# Altium footprint library STC Micro 15 Series.PcbLib: 25 footprints (part 1 of 2)
Each footprint in its own frame and in the unit in brackets; x right, y up, seen from the top. Pads: shape width x height; smd on the part's side, far side on the other; paste and mask are expansions set on the pad; w line width, h text height; cw(c..) or ccw(c..) is an arc to the next point about the centre after c.
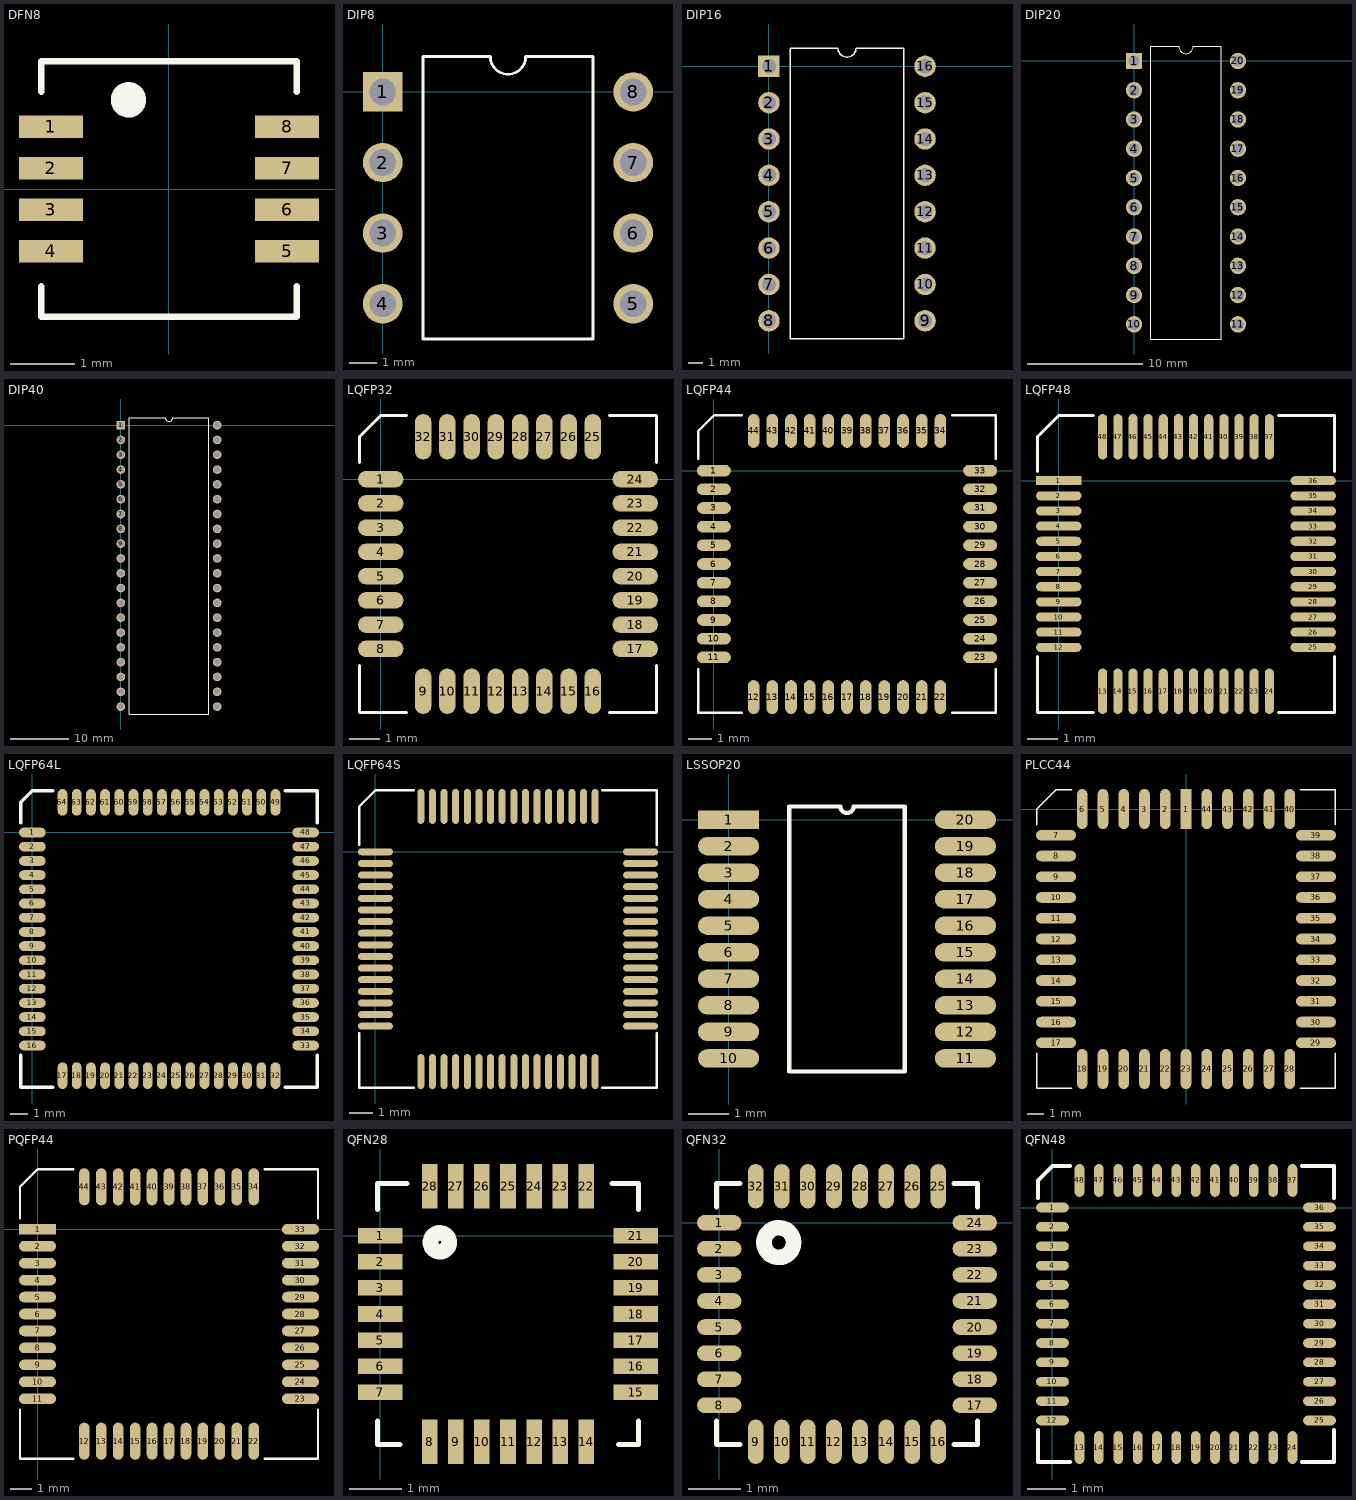
[diagram p0: the footprints below, top view; thin cyan lines are the x and y axes]

## DFN8 [mm]
pads (8):
  rect 1x0.35 all layers, no hole: 1(-1.85,0.975) 2(-1.85,0.325) 3(-1.85,-0.325) 4(-1.85,-0.975) 5(1.85,-0.975) 6(1.85,-0.325) 7(1.85,0.325) 8(1.85,0.975)
Top Overlay:
  circle w0.3: c-0.635,1.397 r0.127
  lines w0.1: -2,-1.524 -2,-2 2,-2 2,-1.524 ; -2,1.524 -2,2 2,2 2,1.524

## DIP8 [mil]
pads (8):
  rect 56x56 hole 38: 1(0,0)
  round 56 hole 38: 2(0,-100) 3(0,-200) 4(0,-300) 5(355,-300) 6(355,-200) 7(355,-100) 8(355,0)
Top Overlay:
  lines w4: 57,-350 57,50 152.5,50 ccw(c177.5,50) 202.5,50 298,50 298,-350 57,-350

## DIP16 [mm]
pads (16):
  rect 1.5x1.5 hole 1: 1(0,0)
  round 1.5 hole 1: 2(0,-2.54) 3(0,-5.08) 4(0,-7.62) 5(0,-10.16) 6(0,-12.7) 7(0,-15.24) 8(0,-17.78) 9(10.9,-17.78) 10(10.9,-15.24) 11(10.9,-12.7) 12(10.9,-10.16) 13(10.9,-7.62) 14(10.9,-5.08) 15(10.9,-2.54) 16(10.9,0)
Top Overlay:
  lines w0.1: 1.485,-19.05 1.485,1.27 4.815,1.27 ccw(c5.45,1.27) 6.085,1.27 9.415,1.27 9.415,-19.05 1.485,-19.05

## DIP20 [mil]
pads (20):
  rect 56x56 hole 38: 1(0,0)
  round 56 hole 38: 2(0,-100) 3(0,-200) 4(0,-300) 5(0,-400) 6(0,-500) 7(0,-600) 8(0,-700) 9(0,-800) 10(0,-900) 11(355,-900) 12(355,-800) 13(355,-700) 14(355,-600) 15(355,-500) 16(355,-400) 17(355,-300) 18(355,-200) 19(355,-100) 20(355,0)
Top Overlay:
  lines w4: 57,-950 298,-950 298,50 202.5,50 cw(c177.5,50) 152.5,50 57,50 57,-950

## DIP40 [mil]
pads (40):
  rect 58x58 hole 40: 1(0,0)
  round 58 hole 40: 2(0,-100) 3(0,-200) 4(0,-300) 5(0,-400) 6(0,-500) 7(0,-600) 8(0,-700) 9(0,-800) 10(0,-900) 11(0,-1000) 12(0,-1100) 13(0,-1200) 14(0,-1300) 15(0,-1400) 16(0,-1500) 17(0,-1600) 18(0,-1700) 19(0,-1800) 20(0,-1900) 21(650,-1900) 22(650,-1800) 23(650,-1700) 24(650,-1600) 25(650,-1500) 26(650,-1400) 27(650,-1300) 28(650,-1200) 29(650,-1100) 30(650,-1000) 31(650,-900) 32(650,-800) 33(650,-700) 34(650,-600) 35(650,-500) 36(650,-400) 37(650,-300) 38(650,-200) 39(650,-100) 40(650,0)
Top Overlay:
  lines w4: 58,-1950 592,-1950 592,50 350,50 cw(c325,50) 300,50 58,50 58,-1950

## LQFP32 [mm]
pads (32):
  oval 1.5x0.55 smd: 1(0,0) 2(0,-0.8) 3(0,-1.6) 4(0,-2.4) 5(0,-3.2) 6(0,-4) 7(0,-4.8) 8(0,-5.6) 17(8.4,-5.6) 18(8.4,-4.8) 19(8.4,-4) 20(8.4,-3.2) 21(8.4,-2.4) 22(8.4,-1.6) 23(8.4,-0.8) 24(8.4,0)
  oval 0.55x1.5 smd: 9(1.4,-7) 10(2.2,-7) 11(3,-7) 12(3.8,-7) 13(4.6,-7) 14(5.4,-7) 15(6.2,-7) 16(7,-7) 25(7,1.4) 26(6.2,1.4) 27(5.4,1.4) 28(4.6,1.4) 29(3.8,1.4) 30(3,1.4) 31(2.2,1.4) 32(1.4,1.4)
Top Overlay:
  lines w0.1: -0.7,-6.15 -0.7,-7.7 0.85,-7.7 ; -0.7,0.55 -0.7,1.4 0,2.1 0.85,2.1 ; 7.55,-7.7 9.1,-7.7 9.1,-6.15 ; 7.55,2.1 9.1,2.1 9.1,0.55

## LQFP44 [mm]
pads (44):
  oval 1.45x0.5 smd: 1(0,0) 2(0,-0.8) 3(0,-1.6) 4(0,-2.4) 5(0,-3.2) 6(0,-4) 7(0,-4.8) 8(0,-5.6) 9(0,-6.4) 10(0,-7.2) 11(0,-8) 23(11.4,-8) 24(11.4,-7.2) 25(11.4,-6.4) 26(11.4,-5.6) 27(11.4,-4.8) 28(11.4,-4) 29(11.4,-3.2) 30(11.4,-2.4) 31(11.4,-1.6) 32(11.4,-0.8) 33(11.4,0)
  oval 0.5x1.45 smd: 12(1.7,-9.7) 13(2.5,-9.7) 14(3.3,-9.7) 15(4.1,-9.7) 16(4.9,-9.7) 17(5.7,-9.7) 18(6.5,-9.7) 19(7.3,-9.7) 20(8.1,-9.7) 21(8.9,-9.7) 22(9.7,-9.7) 34(9.7,1.7) 35(8.9,1.7) 36(8.1,1.7) 37(7.3,1.7) 38(6.5,1.7) 39(5.7,1.7) 40(4.9,1.7) 41(4.1,1.7) 42(3.3,1.7) 43(2.5,1.7) 44(1.7,1.7)
Top Overlay:
  lines w0.1: -0.675,-8.5 -0.675,-10.375 1.2,-10.375 ; -0.675,0.5 -0.675,1.7 0,2.375 1.2,2.375 ; 10.2,-10.375 12.075,-10.375 12.075,-8.5 ; 10.2,2.375 12.075,2.375 12.075,0.5

## LQFP48 [mm]
pads (48):
  rect 1.5x0.3 smd: 1(0,0)
  oval 1.5x0.3 smd: 2(0,-0.5) 3(0,-1) 4(0,-1.5) 5(0,-2) 6(0,-2.5) 7(0,-3) 8(0,-3.5) 9(0,-4) 10(0,-4.5) 11(0,-5) 12(0,-5.5) 25(8.4,-5.5) 26(8.4,-5) 27(8.4,-4.5) 28(8.4,-4) 29(8.4,-3.5) 30(8.4,-3) 31(8.4,-2.5) 32(8.4,-2) 33(8.4,-1.5) 34(8.4,-1) 35(8.4,-0.5) 36(8.4,0)
  oval 0.3x1.5 smd: 13(1.45,-6.95) 14(1.95,-6.95) 15(2.45,-6.95) 16(2.95,-6.95) 17(3.45,-6.95) 18(3.95,-6.95) 19(4.45,-6.95) 20(4.95,-6.95) 21(5.45,-6.95) 22(5.95,-6.95) 23(6.45,-6.95) 24(6.95,-6.95) 37(6.95,1.45) 38(6.45,1.45) 39(5.95,1.45) 40(5.45,1.45) 41(4.95,1.45) 42(4.45,1.45) 43(3.95,1.45) 44(3.45,1.45) 45(2.95,1.45) 46(2.45,1.45) 47(1.95,1.45) 48(1.45,1.45)
Top Overlay:
  lines w0.1: -0.7,-5.8 -0.7,-7.65 1.15,-7.65 ; -0.7,0.3 -0.7,1.45 0,2.15 1.15,2.15 ; 7.25,-7.65 9.1,-7.65 9.1,-5.8 ; 7.25,2.15 9.1,2.15 9.1,0.3

## LQFP64L [mm]
pads (64):
  oval 1.5x0.55 smd: 1(0,0) 2(0,-0.8) 3(0,-1.6) 4(0,-2.4) 5(0,-3.2) 6(0,-4) 7(0,-4.8) 8(0,-5.6) 9(0,-6.4) 10(0,-7.2) 11(0,-8) 12(0,-8.8) 13(0,-9.6) 14(0,-10.4) 15(0,-11.2) 16(0,-12) 33(15.4,-12) 34(15.4,-11.2) 35(15.4,-10.4) 36(15.4,-9.6) 37(15.4,-8.8) 38(15.4,-8) 39(15.4,-7.2) 40(15.4,-6.4) 41(15.4,-5.6) 42(15.4,-4.8) 43(15.4,-4) 44(15.4,-3.2) 45(15.4,-2.4) 46(15.4,-1.6) 47(15.4,-0.8) 48(15.4,0)
  oval 0.55x1.5 smd: 17(1.7,-13.7) 18(2.5,-13.7) 19(3.3,-13.7) 20(4.1,-13.7) 21(4.9,-13.7) 22(5.7,-13.7) 23(6.5,-13.7) 24(7.3,-13.7) 25(8.1,-13.7) 26(8.9,-13.7) 27(9.7,-13.7) 28(10.5,-13.7) 29(11.3,-13.7) 30(12.1,-13.7) 31(12.9,-13.7) 32(13.7,-13.7) 49(13.7,1.7) 50(12.9,1.7) 51(12.1,1.7) 52(11.3,1.7) 53(10.5,1.7) 54(9.7,1.7) 55(8.9,1.7) 56(8.1,1.7) 57(7.3,1.7) 58(6.5,1.7) 59(5.7,1.7) 60(4.9,1.7) 61(4.1,1.7) 62(3.3,1.7) 63(2.5,1.7) 64(1.7,1.7)
Top Overlay:
  lines w0.2: -0.65,-12.55 -0.65,-14.35 1.15,-14.35 ; -0.65,0.55 -0.65,1.7 0,2.35 1.15,2.35 ; 14.25,-14.35 16.05,-14.35 16.05,-12.55 ; 14.25,2.35 16.05,2.35 16.05,0.55

## LQFP64S [mm]
height 1.6
pads (64):
  oval 1.5x0.3 smd: 1(0,0) 2(0,-0.5) 3(0,-1) 4(0,-1.5) 5(0,-2) 6(0,-2.5) 7(0,-3) 8(0,-3.5) 9(0,-4) 10(0,-4.5) 11(0,-5) 12(0,-5.5) 13(0,-6) 14(0,-6.5) 15(0,-7) 16(0,-7.5) 33(11.4,-7.5) 34(11.4,-7) 35(11.4,-6.5) 36(11.4,-6) 37(11.4,-5.5) 38(11.4,-5) 39(11.4,-4.5) 40(11.4,-4) 41(11.4,-3.5) 42(11.4,-3) 43(11.4,-2.5) 44(11.4,-2) 45(11.4,-1.5) 46(11.4,-1) 47(11.4,-0.5) 48(11.4,0)
  oval 0.3x1.5 smd: 17(1.95,-9.45) 18(2.45,-9.45) 19(2.95,-9.45) 20(3.45,-9.45) 21(3.95,-9.45) 22(4.45,-9.45) 23(4.95,-9.45) 24(5.45,-9.45) 25(5.95,-9.45) 26(6.45,-9.45) 27(6.95,-9.45) 28(7.45,-9.45) 29(7.95,-9.45) 30(8.45,-9.45) 31(8.95,-9.45) 32(9.45,-9.45) 49(9.45,1.95) 50(8.95,1.95) 51(8.45,1.95) 52(7.95,1.95) 53(7.45,1.95) 54(6.95,1.95) 55(6.45,1.95) 56(5.95,1.95) 57(5.45,1.95) 58(4.95,1.95) 59(4.45,1.95) 60(3.95,1.95) 61(3.45,1.95) 62(2.95,1.95) 63(2.45,1.95) 64(1.95,1.95)
Top Overlay:
  lines w0.1: -0.7,-7.8 -0.7,-10.15 1.65,-10.15 ; -0.7,0.3 -0.7,1.95 0,2.65 1.65,2.65 ; 9.75,-10.15 12.1,-10.15 12.1,-7.8 ; 9.75,2.65 12.1,2.65 12.1,0.3

## LSSOP20 [mm]
pads (20):
  rect 1.5x0.45 smd: 1(0,0)
  oval 1.5x0.45 smd: 2(0,-0.65) 3(0,-1.3) 4(0,-1.95) 5(0,-2.6) 6(0,-3.25) 7(0,-3.9) 8(0,-4.55) 9(0,-5.2) 10(0,-5.85) 11(5.8,-5.85) 12(5.8,-5.2) 13(5.8,-4.55) 14(5.8,-3.9) 15(5.8,-3.25) 16(5.8,-2.6) 17(5.8,-1.95) 18(5.8,-1.3) 19(5.8,-0.65) 20(5.8,0)
Top Overlay:
  lines w0.1: 1.485,-6.175 4.315,-6.175 4.315,0.325 3.062,0.325 cw(c2.9,0.325) 2.738,0.325 1.485,0.325 1.485,-6.175

## PLCC44 [mm]
pads (44):
  rect 0.65x2.45 smd: 1(0,0)
  oval 0.65x2.45 smd: 2(-1.27,0) 3(-2.54,0) 4(-3.81,0) 5(-5.08,0) 6(-6.35,0) 18(-6.35,-15.9) 19(-5.08,-15.9) 20(-3.81,-15.9) 21(-2.54,-15.9) 22(-1.27,-15.9) 23(0,-15.9) 24(1.27,-15.9) 25(2.54,-15.9) 26(3.81,-15.9) 27(5.08,-15.9) 28(6.35,-15.9) 40(6.35,0) 41(5.08,0) 42(3.81,0) 43(2.54,0) 44(1.27,0)
  oval 2.45x0.65 smd: 7(-7.95,-1.6) 8(-7.95,-2.87) 9(-7.95,-4.14) 10(-7.95,-5.41) 11(-7.95,-6.68) 12(-7.95,-7.95) 13(-7.95,-9.22) 14(-7.95,-10.49) 15(-7.95,-11.76) 16(-7.95,-13.03) 17(-7.95,-14.3) 29(7.95,-14.3) 30(7.95,-13.03) 31(7.95,-11.76) 32(7.95,-10.49) 33(7.95,-9.22) 34(7.95,-7.95) 35(7.95,-6.68) 36(7.95,-5.41) 37(7.95,-4.14) 38(7.95,-2.87) 39(7.95,-1.6)
Top Overlay:
  lines w0.1: -9.125,-14.95 -9.125,-17.075 -7,-17.075 ; -9.125,-0.95 -9.125,0 -7.95,1.175 -7,1.175 ; 7,-17.075 9.125,-17.075 9.125,-14.95 ; 7,1.175 9.125,1.175 9.125,-0.95

## PQFP44 [mm]
pads (44):
  rect 1.75x0.5 smd: 1(0,0)
  oval 1.75x0.5 smd: 2(0,-0.8) 3(0,-1.6) 4(0,-2.4) 5(0,-3.2) 6(0,-4) 7(0,-4.8) 8(0,-5.6) 9(0,-6.4) 10(0,-7.2) 11(0,-8) 23(12.4,-8) 24(12.4,-7.2) 25(12.4,-6.4) 26(12.4,-5.6) 27(12.4,-4.8) 28(12.4,-4) 29(12.4,-3.2) 30(12.4,-2.4) 31(12.4,-1.6) 32(12.4,-0.8) 33(12.4,0)
  oval 0.5x1.75 smd: 12(2.2,-10) 13(3,-10) 14(3.8,-10) 15(4.6,-10) 16(5.4,-10) 17(6.2,-10) 18(7,-10) 19(7.8,-10) 20(8.6,-10) 21(9.4,-10) 22(10.2,-10) 34(10.2,2) 35(9.4,2) 36(8.6,2) 37(7.8,2) 38(7,2) 39(6.2,2) 40(5.4,2) 41(4.6,2) 42(3.8,2) 43(3,2) 44(2.2,2)
Top Overlay:
  lines w0.1: -0.825,-8.5 -0.825,-10.825 1.7,-10.825 ; -0.825,0.5 -0.825,2 0,2.825 1.7,2.825 ; 10.7,-10.825 13.225,-10.825 13.225,-8.5 ; 10.7,2.825 13.225,2.825 13.225,0.5

## QFN28 [mm]
pads (28):
  rect 0.85x0.3 smd: 1(0,0) 2(0,-0.5) 3(0,-1) 4(0,-1.5) 5(0,-2) 6(0,-2.5) 7(0,-3) 15(4.9,-3) 16(4.9,-2.5) 17(4.9,-2) 18(4.9,-1.5) 19(4.9,-1) 20(4.9,-0.5) 21(4.9,0)
  rect 0.3x0.85 smd: 8(0.95,-3.95) 9(1.45,-3.95) 10(1.95,-3.95) 11(2.45,-3.95) 12(2.95,-3.95) 13(3.45,-3.95) 14(3.95,-3.95) 22(3.95,0.95) 23(3.45,0.95) 24(2.95,0.95) 25(2.45,0.95) 26(1.95,0.95) 27(1.45,0.95) 28(0.95,0.95)
Top Overlay:
  circle w0.3: c1.143,-0.127 r0.18
  lines w0.1: -0.05,-3.556 -0.05,-4 0.381,-4 ; -0.05,0.508 -0.05,1 0.508,1 ; 4.445,1 4.95,1 4.95,0.508 ; 4.572,-4 4.95,-4 4.95,-3.556

## QFN32 [mm]
pads (32):
  oval 0.85x0.3 smd: 1(0,0) 2(0,-0.5) 3(0,-1) 4(0,-1.5) 5(0,-2) 6(0,-2.5) 7(0,-3) 8(0,-3.5) 17(4.9,-3.5) 18(4.9,-3) 19(4.9,-2.5) 20(4.9,-2) 21(4.9,-1.5) 22(4.9,-1) 23(4.9,-0.5) 24(4.9,0)
  oval 0.3x0.85 smd: 9(0.7,-4.2) 10(1.2,-4.2) 11(1.7,-4.2) 12(2.2,-4.2) 13(2.7,-4.2) 14(3.2,-4.2) 15(3.7,-4.2) 16(4.2,-4.2) 25(4.2,0.7) 26(3.7,0.7) 27(3.2,0.7) 28(2.7,0.7) 29(2.2,0.7) 30(1.7,0.7) 31(1.2,0.7) 32(0.7,0.7)
Top Overlay:
  circle w0.3: c1.143,-0.381 r0.284
  lines w0.1: -0.05,-3.8 -0.05,-4.25 0.4,-4.25 ; -0.05,0.3 -0.05,0.75 0.4,0.75 ; 4.5,-4.25 4.95,-4.25 4.95,-3.8 ; 4.5,0.75 4.95,0.75 4.95,0.3

## QFN48 [mm]
pads (48):
  oval 0.85x0.25 smd: 1(0,0) 2(0,-0.5) 3(0,-1) 4(0,-1.5) 5(0,-2) 6(0,-2.5) 7(0,-3) 8(0,-3.5) 9(0,-4) 10(0,-4.5) 11(0,-5) 12(0,-5.5) 25(6.9,-5.5) 26(6.9,-5) 27(6.9,-4.5) 28(6.9,-4) 29(6.9,-3.5) 30(6.9,-3) 31(6.9,-2.5) 32(6.9,-2) 33(6.9,-1.5) 34(6.9,-1) 35(6.9,-0.5) 36(6.9,0)
  oval 0.25x0.85 smd: 13(0.7,-6.2) 14(1.2,-6.2) 15(1.7,-6.2) 16(2.2,-6.2) 17(2.7,-6.2) 18(3.2,-6.2) 19(3.7,-6.2) 20(4.2,-6.2) 21(4.7,-6.2) 22(5.2,-6.2) 23(5.7,-6.2) 24(6.2,-6.2) 37(6.2,0.7) 38(5.7,0.7) 39(5.2,0.7) 40(4.7,0.7) 41(4.2,0.7) 42(3.7,0.7) 43(3.2,0.7) 44(2.7,0.7) 45(2.2,0.7) 46(1.7,0.7) 47(1.2,0.7) 48(0.7,0.7)
Top Overlay:
  lines w0.1: -0.375,-5.75 -0.375,-6.575 0.45,-6.575 ; -0.375,0.25 -0.375,0.7 0,1.075 0.45,1.075 ; 6.45,-6.575 7.275,-6.575 7.275,-5.75 ; 6.45,1.075 7.275,1.075 7.275,0.25